# Altium footprint library FUSE.PcbLib: 4 footprints
Each footprint in its own frame and in the unit in brackets; x right, y up, seen from the top. Pads: shape width x height; smd on the part's side, far side on the other; paste and mask are expansions set on the pad; w line width, h text height; cw(c..) or ccw(c..) is an arc to the next point about the centre after c.
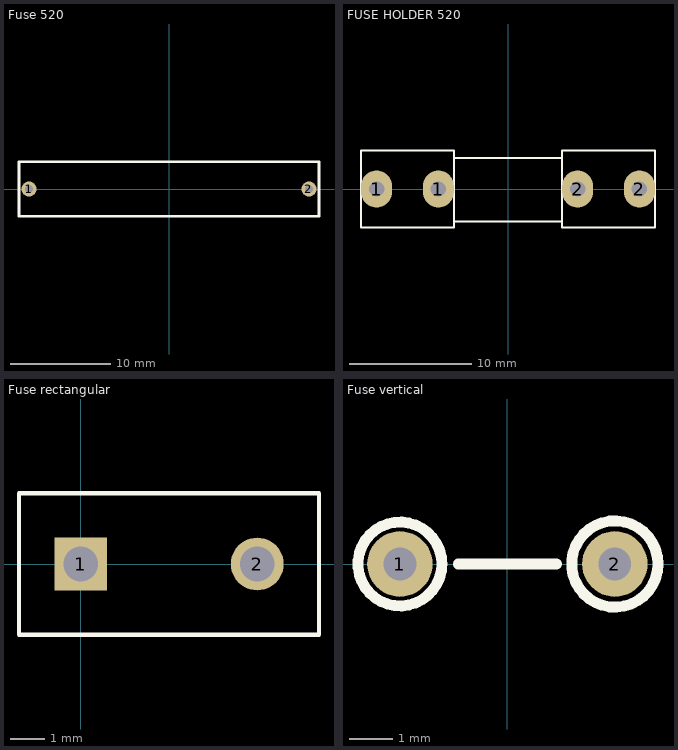
[diagram p0: the footprints below, top view; thin cyan lines are the x and y axes]

## Fuse 520 [mil] "5x20mm d=28mm"
pads (2):
  round 60 hole 30: 1(-551.18,0) 2(551.18,0)
Top Overlay:
  lines w10: -590.55,106.3 -590.55,-106.3 590.55,-106.3 590.55,106.3 ; -590.55,106.54 590.55,106.54
3D body "Better Seria316 Horizontal.SLDPRT": height 184.56, standoff -118.11, extent -352.35,-85 342.35,88.23

## FUSE HOLDER 520 [mil] "De Fuse"
pads (4):
  oval 100x120 hole 50: 1(-425,0) 1(-225,0) 2(225,0) 2(425,0)
Top Overlay:
  lines w7: -175,-105 175,-105 ; -175,100 175,100 ; -475,-125 -475,125 -175,125 -175,-125 -475,-125 ; 175,-125 475,-125 475,125 175,125 175,-125
3D body "SW3dPS-Fuse Leg_2009.STEP": height 377.88, standoff -129.94, extent 219,-116.71 459,127
3D body "SW3dPS-Fuse Small 1A.STEP": height 370.39, standoff 169.61, extent -384.8,-98 390.8,102.79
3D body "SW3dPS-Fuse Leg_2009.STEP": height 377.88, standoff -129.94, extent -448,-117 -208,126.71

## Fuse rectangular [mil] "5.08 0.6"
pads (2):
  rect 60x60 hole 39.37: 1(0,0)
  round 60 hole 39.37: 2(200,0)
Top Overlay:
  lines w5: -70,-80 270,-80 270,80 -70,80 -70,-80
3D body "36912000000.stp": height 314.96, standoff -169.29, extent -67.32,-78.74 267.32,78.74

## Fuse vertical [mil] "d=5mm"
pads (2):
  round 60 hole 30: 1(-98.43,0) 2(98.43,0)
Top Overlay:
  circle w10: c98.43,0 r39.53
  circle w10: c-98.43,0 r38.43
  lines w10: -45,0 45,0
3D body "Better Seria316 Vertical.SLDPRT": height 650.5, standoff -149.61, extent -73.16,-85 183.16,88.23